# EAGLE library part SDCARD- (library Conn - Memory - PC Card Sockets)
MULTICOMP TFCMF-20801B0T0-UTE MEMORY CARD CONNECTOR, MICROSD, 8POS With card detection pin (normally closed)
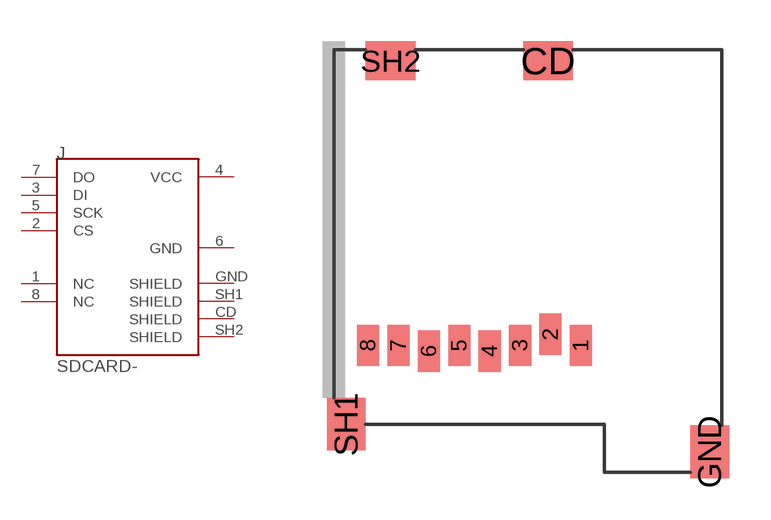
[diagram p0: symbol with the pads of TFCMF-20801B0T0-UTE; footprint TFCMF-20801B0T0-UTE]

Designator prefix J

## SDCARD-  [TFCMF-20801B0T0-UTE]
1  NC  nc
2  CS
3  DI
4  VCC  pwr
5  SCK
6  GND  pwr
7  DO
8  NC  nc
CD  SHIELD  pas
GND  SHIELD  pas
SH1  SHIELD  pas
SH2  SHIELD  pas

## Footprint TFCMF-20801B0T0-UTE (pad centres in mm)
smd 0.8 x 1.5: 1 0,0; 2 -1.1,0.4; 3 -2.2,0; 4 -3.3,-0.2; 5 -4.4,0; 6 -5.5,-0.2; 7 -6.6,0; 8 -7.7,0
smd 1.8 x 1.4: CD -1.19,10.3; SH2 -6.89,10.3
smd 1.4 x 1.9: GND 4.66,-3.85; SH1 -8.49,-2.85